# Altium schematic symbol library LAN9250.SchLib: 1 symbol
Pins are listed as number, name and electrical type; pins without a type are passive.

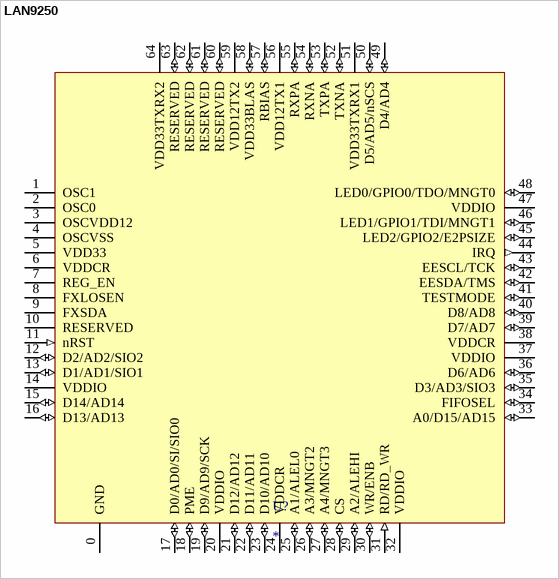
[diagram p0: symbol LAN9250]

## LAN9250
designator U?
pins: 0 GND (power), 1 OSC1 (power), 2 OSC0 (power), 3 OSCVDD12 (power), 4 OSCVSS (power), 5 VDD33 (power), 6 VDDCR (power), 7 REG_EN (power), 8 FXLOSEN (power), 9 FXSDA (power), 10 RESERVED, 11 nRST (in), 12 D2/AD2/SIO2 (io), 13 D1/AD1/SIO1 (io), 14 VDDIO (power), 15 D14/AD14 (io), 16 D13/AD13 (io), 17 D0/AD0/SI/SIO0 (io), 18 PME (io), 19 D9/AD9/SCK (io), 20 VDDIO (power), 21 D12/AD12 (io), 22 D11/AD11 (io), 23 D10/AD10 (io), 24 VDDCR (power), 25 A1/ALEL0 (io), 26 A3/MNGT2 (io), 27 A4/MNGT3 (io), 28 CS (io), 29 A2/ALEHI (io), 30 WR/ENB (io), 31 RD/RD_WR (in), 32 VDDIO (power), 33 A0/D15/AD15 (io), 34 FIFOSEL (io), 35 D3/AD3/SIO3 (io), 36 D6/AD6 (io), 37 VDDIO (power), 38 VDDCR (power), 39 D7/AD7 (io), 40 D8/AD8 (io), 41 TESTMODE (io), 42 EESDA/TMS (io), 43 EESCL/TCK (io), 44 IRQ (out), 45 LED2/GPIO2/E2PSIZE (io), 46 LED1/GPIO1/TDI/MNGT1 (io), 47 VDDIO (power), 48 LED0/GPIO0/TDO/MNGT0 (io), 49 D4/AD4 (io), 50 D5/AD5/nSCS (io), 51 VDD33TXRX1 (power), 52 TXNA (io), 53 TXPA (io), 54 RXNA (io), 55 RXPA (io), 56 VDD12TX1 (power), 57 RBIAS (io), 58 VDD33BLAS (io), 59 VDD12TX2 (power), 60 RESERVED (io), 61 RESERVED (io), 62 RESERVED (io), 63 RESERVED (io), 64 VDD33TXRX2 (power)